# Altium schematic symbol library ATTINY85-20SU.SchLib: 1 symbol
Pins are listed as number, name and electrical type; pins without a type are passive.

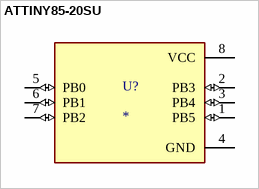
[diagram p0: symbol ATTINY85-20SU]

## ATTINY85-20SU
designator U?
AVR AVRÂ® ATtiny, IC de microcontrolador de seguridad funcional (FuSa) de 8 bits, 20 MHz, 8 KB (4K x 16), FLASH 8-SOIC; MP: ATTINY85-20SU; MF: Microchip; Package: SOIC-8 Microchip; SnapEDA_Link: https://www.snapeda.com/parts/ATTINY85-20SU/Microchip/view-part/681099/?ref=snap; Check_prices: https://www.snapeda.com/parts/ATTINY85-20SU/Microchip/view-part/681099/?ref=eda; Availability: In Stock; Value: *; Price: None
footprint SOIC127P798X216-8N
pins: 1 PB5 (io), 2 PB3 (io), 3 PB4 (io), 4 GND (power), 5 PB0 (io), 6 PB1 (io), 7 PB2 (io), 8 VCC (power)